# Altium footprint library Inductors.PcbLib: 4 footprints
Each footprint in its own frame and in the unit in brackets; x right, y up, seen from the top. Pads: shape width x height; smd on the part's side, far side on the other; paste and mask are expansions set on the pad; w line width, h text height; cw(c..) or ccw(c..) is an arc to the next point about the centre after c.
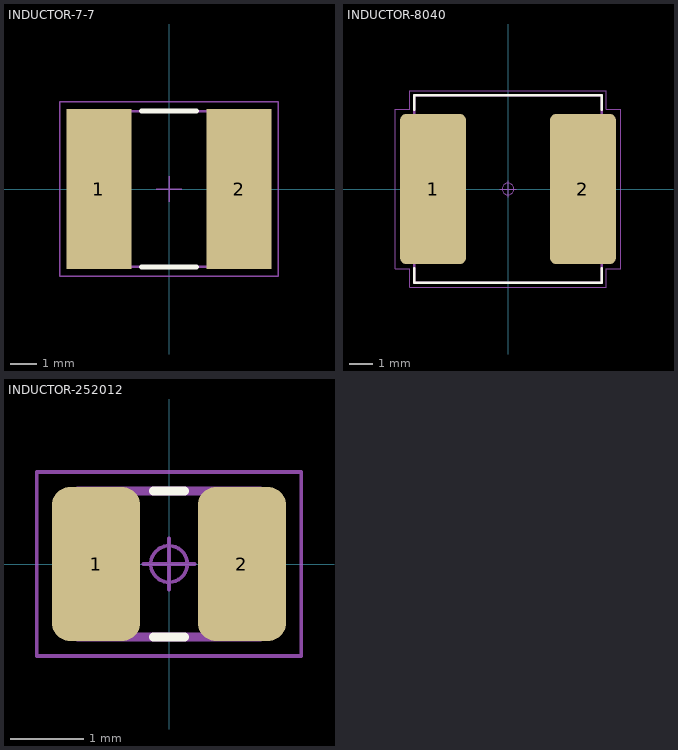
[diagram p0: the footprints below, top view; thin cyan lines are the x and y axes]

## INDUCTOR-7-7 [mm]
pads (2):
  rect 2.5x6.15 smd: 1(-2.7,0) 2(2.7,0)
Top Overlay:
  lines w0.2: -1.05,-3 1.05,-3 ; -1.05,3 1.05,3
Mechanical 15:
  lines w0.1: -3.5,-3 3.5,-3 3.5,3 -3.5,3 -3.5,-3
  text "1" at -0.164,-0.45 h0.75
Mechanical 20:
  lines w0.05: -0.5,0 0.5,0 ; 0,-0.5 0,0.5 ; -4.2,-3.35 4.2,-3.35 4.2,3.35 -4.2,3.35 -4.2,-3.35
Mechanical 21:
  lines w0.001: -3.5,-3 3.5,-3 3.5,3 -3.5,3 -3.5,-3

## Inductor-10-10 [mm]

## INDUCTOR-8040 [mm]
pads (2):
  rrect18% 2.81x6.41 smd: 1(-3.2,0) 2(3.2,0)
Top Overlay:
  lines w0.12: -4,-3.385 -4,-4 4,-4 4,-3.385 ; -4,3.385 -4,4 4,4 4,3.385
Mechanical 11:
  lines w0.12: -4,-4 4,-4 4,4 -4,4 -4,-4
Mechanical 12:
  lines w0.025: -4,-4 4,-4 4,4 -4,4 -4,-4 ; -4,-3.15 -4,3.15 -2,3.15 -2,-3.15 -4,-3.15 ; 2,-3.15 4,-3.15 4,3.15 2,3.15 2,-3.15
Mechanical 15:
  circle w0.05: c0,0 r0.25
  lines w0.05: -0.35,0 0.35,0 ; 0,-0.35 0,0.35 ; -4.805,-3.405 -4.2,-3.405 -4.2,-4.2 4.2,-4.2 4.2,-3.405 4.805,-3.405 4.805,3.405 4.2,3.405 4.2,4.2 -4.2,4.2 -4.2,3.405 -4.805,3.405 -4.805,-3.405
Mechanical 16:
  text ".Designator" at 0,0 h1.2

## INDUCTOR-252012 [mm]
pads (2):
  rrect41% 1.21x2.11 smd: 1(-1,0) 2(1,0)
Top Overlay:
  lines w0.12: -0.215,-1 0.215,-1 ; -0.215,1 0.215,1
Mechanical 11:
  lines w0.12: -1.25,-1 1.25,-1 1.25,1 -1.25,1 -1.25,-1
Mechanical 12:
  lines w0.025: -1.25,-1 1.25,-1 ; -1.25,-1 -1.25,1 ; -1.25,-1 -1.25,1 ; -1.25,-1 -0.45,-1 -0.45,1 -1.25,1 ; -1.25,1 1.25,1 ; 1.25,-1 1.25,1 ; 1.25,-1 0.45,-1 0.45,1 1.25,1 ; 1.25,-1 1.25,1
Mechanical 15:
  circle w0.05: c0,0 r0.25
  lines w0.05: -0.35,0 0.35,0 ; 0,-0.35 0,0.35 ; -1.81,-1.26 1.81,-1.26 1.81,1.26 -1.81,1.26 -1.81,-1.26